# EAGLE library part LCD-I2C- (library 140182-1-v2.1-j2b-synth)
LCD with I2C interface
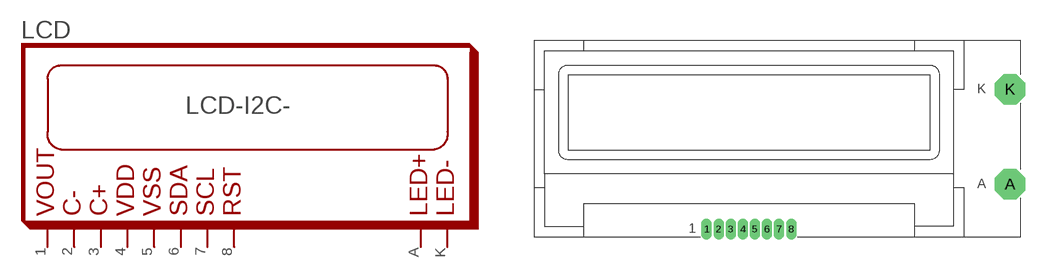
[diagram p2: symbol with the pads of LCD-MIDAS-I2C; footprint LCD-MIDAS-I2C]

Designator prefix LCD

## LCD-I2C-MIDAS  [LCD-MIDAS-I2C]
1  1
2  2
3  3
4  4
5  5
6  6
7  7
8  8
A  A
K  K

## Footprint LCD-MIDAS-I2C (pad centres in mm)
LCD Midas MCCOG21605B6W-SPTLYI I2C interface
drill 0.6 pad 1 long: 1 -4.445,-12.3; 2 -3.175,-12.3; 3 -1.905,-12.3; 4 -0.635,-12.3; 5 0.635,-12.3; 6 1.905,-12.3; 7 3.175,-12.3; 8 4.445,-12.3
drill 2.2 octagon: A 27.45,-7.575; K 27.45,2.425